# Altium schematic symbol library 255-416_000-009_999-950.SchLib: 1 symbol
Pins are listed as number, name and electrical type; pins without a type are passive.

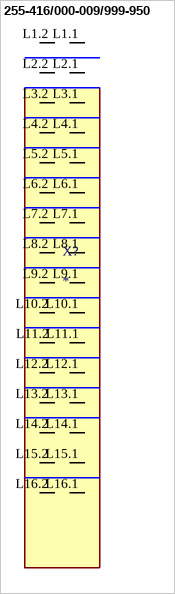
[diagram p0: symbol 255-416/000-009/999-950]

## 255-416/000-009/999-950
designator X?
<b>Serie 255,  Ex-e-II-Klemmenleiste fÃ¼r Leiterplatten 2 LÃ¶tstifte/Pol / Series 255,  Ex e II PCB terminal strip 2 solder pins/pole</b><br><br>Polzahl / Pole No.: 16 <br>RastermaÃŸ / Pitch: 5 - 5.08  mm<br>Leiterquerschnitt / Conductor Size: 0.08 - 2.5 mm2<br>Anschlusstechnik / Connection Technology: CAGE CLAMP<sup>Â®</sup> <br>LÃ¶tstiftlÃ¤nge: / Solder Pin Length: 4 mm<br>LeitereinfÃ¼hrung (zur Platine) / Conductor entry angle (to PCB): 90 Â°<br>Farbe / Color: lichtgrau / light gray<br><br> Stand: 01.01.2014. Die jeweils aktuellen Daten zu diesem Artikel finden Sie in unserem Produktkatalog, den Sie unter <a href="http://www.wago.com">www.wago.com</a> einsehen kÃ¶nnen. <br> As of: 01/01/2014. Please find the newest data for this article in our product catalogue, which can be viewed under <a href="http://www.wago.com">www.wago.com</a>.<br>; MP: 255-416/000-009/999-950; MF: {'manufacturer': u'WAGO Innovative Connections'}; Value: *; Availability: Unavailable; Package: None; Price: None
footprint P-255-416
pins: L1.1 P1.1 (io), L1.2 P1.2 (io), L2.1 P2.1 (io), L2.2 P2.2 (io), L3.1 P3.1 (io), L3.2 P3.2 (io), L4.1 P4.1 (io), L4.2 P4.2 (io), L5.1 P5.1 (io), L5.2 P5.2 (io), L6.1 P6.1 (io), L6.2 P6.2 (io), L7.1 P7.1 (io), L7.2 P7.2 (io), L8.1 P8.1 (io), L8.2 P8.2 (io), L9.1 P9.1 (io), L9.2 P9.2 (io), L10.1 P10.1 (io), L10.2 P10.2 (io), L11.1 P11.1 (io), L11.2 P11.2 (io), L12.1 P12.1 (io), L12.2 P12.2 (io), L13.1 P13.1 (io), L13.2 P13.2 (io), L14.1 P14.1 (io), L14.2 P14.2 (io), L15.1 P15.1 (io), L15.2 P15.2 (io), L16.1 P16.1 (io), L16.2 P16.2 (io)